# Altium integrated library RT0603WRE0710KL.IntLib: 1 symbol
Pins are listed as number, name and electrical type; pins without a type are passive.

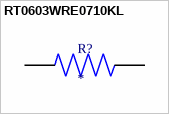
[diagram p0: symbol RT0603WRE0710KL]

## RT0603WRE0710KL
designator R?
10 kOhms Â±0.05% 0.1W, 1/10W Chip Resistor 0603 (1608 Metric) Thin Film; MF: Yageo; MP: RT0603WRE0710KL; Value: *; Availability: Warning; Package: 1608 Yageo; SnapEDA_Link: https://www.snapeda.com/parts/RT0603WRE0710KL/Yageo/view-part/3857941/?ref=snap; Price: None; Check_prices: https://www.snapeda.com/parts/RT0603WRE0710KL/Yageo/view-part/3857941/?ref=eda; Purchase-URL: https://pricing.snapeda.com/search/part/RT0603WRE0710KL/?ref=eda
footprint RESC1608X55N
pins: 1, 2